# Altium footprint library SW_OS102011MS2.PcbLib: 1 footprints
Each footprint in its own frame and in the unit in brackets; x right, y up, seen from the top. Pads: shape width x height; smd on the part's side, far side on the other; paste and mask are expansions set on the pad; w line width, h text height; cw(c..) or ccw(c..) is an arc to the next point about the centre after c.
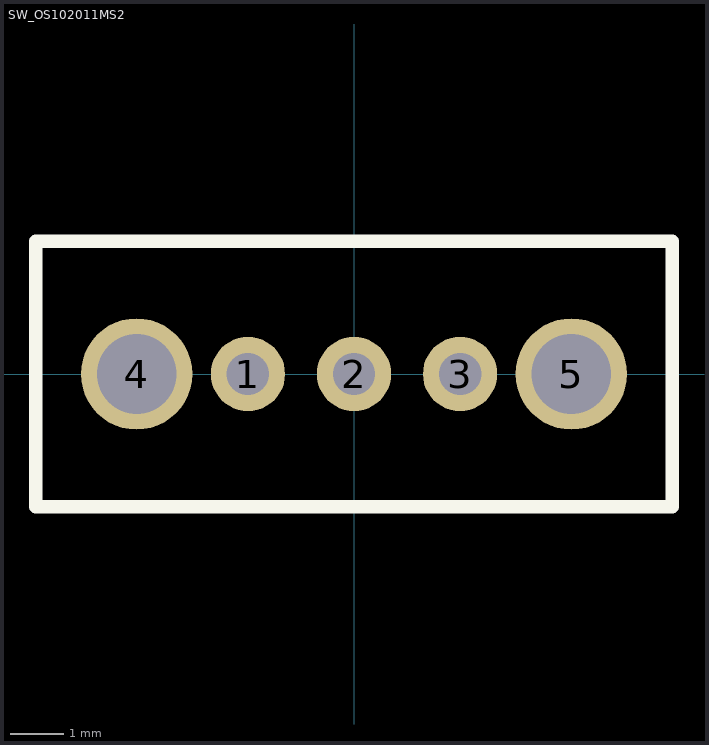
[diagram p0: the footprint, top view; thin cyan lines are the x and y axes]

## SW_OS102011MS2 [mm] "OS102011MS2"
pads (5):
  round 1.4 hole 0.8: 1(-2,0) 2(0,0) 3(2,0)
  round 2.1 hole 1.5: 4(-4.1,0) 5(4.1,0)
Top Overlay:
  lines w0.254: -6,-2.5 -6,2.5 6,2.5 6,-2.5 -6,-2.5